# Altium footprint library QFP_Shrink_Sq_40P_Side_L.PcbLib: 26 footprints (part 3 of 3)
Each footprint in its own frame and in the unit in brackets; x right, y up, seen from the top. Pads: shape width x height; smd on the part's side, far side on the other; paste and mask are expansions set on the pad; w line width, h text height; cw(c..) or ccw(c..) is an arc to the next point about the centre after c.
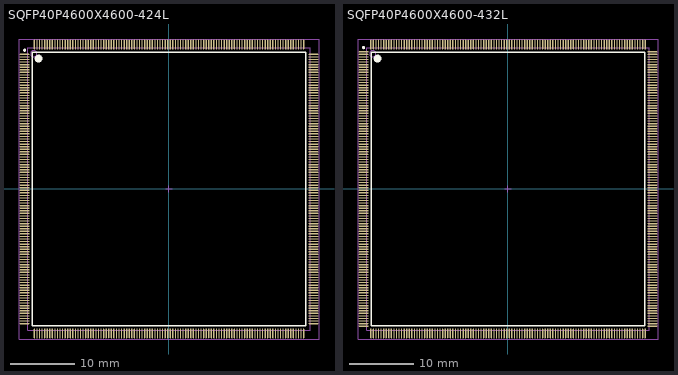
[diagram p2: the footprints below, top view; thin cyan lines are the x and y axes]

## SQFP40P4600X4600-424L [mm] "Shrink QFP, 424-Leads, Body 44x44mm, Pitch 0.4mm, IPC High Density"
height 4.2
pads (424):
  oval 1.55x0.2 smd: 1(-22.525,21) 2(-22.525,20.6) 3(-22.525,20.2) 4(-22.525,19.8) 5(-22.525,19.4) 6(-22.525,19) 7(-22.525,18.6) 8(-22.525,18.2) 9(-22.525,17.8) 10(-22.525,17.4) 11(-22.525,17) 12(-22.525,16.6) 13(-22.525,16.2) 14(-22.525,15.8) 15(-22.525,15.4) 16(-22.525,15) 17(-22.525,14.6) 18(-22.525,14.2) 19(-22.525,13.8) 20(-22.525,13.4) 21(-22.525,13) 22(-22.525,12.6) 23(-22.525,12.2) 24(-22.525,11.8) 25(-22.525,11.4) 26(-22.525,11) 27(-22.525,10.6) 28(-22.525,10.2) 29(-22.525,9.8) 30(-22.525,9.4) 31(-22.525,9) 32(-22.525,8.6) 33(-22.525,8.2) 34(-22.525,7.8) 35(-22.525,7.4) 36(-22.525,7) 37(-22.525,6.6) 38(-22.525,6.2) 39(-22.525,5.8) 40(-22.525,5.4) 41(-22.525,5) 42(-22.525,4.6) 43(-22.525,4.2) 44(-22.525,3.8) 45(-22.525,3.4) 46(-22.525,3) 47(-22.525,2.6) 48(-22.525,2.2) 49(-22.525,1.8) 50(-22.525,1.4) 51(-22.525,1) 52(-22.525,0.6) 53(-22.525,0.2) 54(-22.525,-0.2) 55(-22.525,-0.6) 56(-22.525,-1) 57(-22.525,-1.4) 58(-22.525,-1.8) 59(-22.525,-2.2) 60(-22.525,-2.6) 61(-22.525,-3) 62(-22.525,-3.4) 63(-22.525,-3.8) 64(-22.525,-4.2) 65(-22.525,-4.6) 66(-22.525,-5) 67(-22.525,-5.4) 68(-22.525,-5.8) 69(-22.525,-6.2) 70(-22.525,-6.6) 71(-22.525,-7) 72(-22.525,-7.4) 73(-22.525,-7.8) 74(-22.525,-8.2) 75(-22.525,-8.6) 76(-22.525,-9) 77(-22.525,-9.4) 78(-22.525,-9.8) 79(-22.525,-10.2) 80(-22.525,-10.6) 81(-22.525,-11) 82(-22.525,-11.4) 83(-22.525,-11.8) 84(-22.525,-12.2) 85(-22.525,-12.6) 86(-22.525,-13) 87(-22.525,-13.4) 88(-22.525,-13.8) 89(-22.525,-14.2) 90(-22.525,-14.6) 91(-22.525,-15) 92(-22.525,-15.4) 93(-22.525,-15.8) 94(-22.525,-16.2) 95(-22.525,-16.6) 96(-22.525,-17) 97(-22.525,-17.4) 98(-22.525,-17.8) 99(-22.525,-18.2) 100(-22.525,-18.6) 101(-22.525,-19) 102(-22.525,-19.4) 103(-22.525,-19.8) 104(-22.525,-20.2) 105(-22.525,-20.6) 106(-22.525,-21) 213(22.525,-21) 214(22.525,-20.6) 215(22.525,-20.2) 216(22.525,-19.8) 217(22.525,-19.4) 218(22.525,-19) 219(22.525,-18.6) 220(22.525,-18.2) 221(22.525,-17.8) 222(22.525,-17.4) 223(22.525,-17) 224(22.525,-16.6) 225(22.525,-16.2) 226(22.525,-15.8) 227(22.525,-15.4) 228(22.525,-15) 229(22.525,-14.6) 230(22.525,-14.2) 231(22.525,-13.8) 232(22.525,-13.4) 233(22.525,-13) 234(22.525,-12.6) 235(22.525,-12.2) 236(22.525,-11.8) 237(22.525,-11.4) 238(22.525,-11) 239(22.525,-10.6) 240(22.525,-10.2) 241(22.525,-9.8) 242(22.525,-9.4) 243(22.525,-9) 244(22.525,-8.6) 245(22.525,-8.2) 246(22.525,-7.8) 247(22.525,-7.4) 248(22.525,-7) 249(22.525,-6.6) 250(22.525,-6.2) 251(22.525,-5.8) 252(22.525,-5.4) 253(22.525,-5) 254(22.525,-4.6) 255(22.525,-4.2) 256(22.525,-3.8) 257(22.525,-3.4) 258(22.525,-3) 259(22.525,-2.6) 260(22.525,-2.2) 261(22.525,-1.8) 262(22.525,-1.4) 263(22.525,-1) 264(22.525,-0.6) 265(22.525,-0.2) 266(22.525,0.2) 267(22.525,0.6) 268(22.525,1) 269(22.525,1.4) 270(22.525,1.8) 271(22.525,2.2) 272(22.525,2.6) 273(22.525,3) 274(22.525,3.4) 275(22.525,3.8) 276(22.525,4.2) 277(22.525,4.6) 278(22.525,5) 279(22.525,5.4) 280(22.525,5.8) 281(22.525,6.2) 282(22.525,6.6) 283(22.525,7) 284(22.525,7.4) 285(22.525,7.8) 286(22.525,8.2) 287(22.525,8.6) 288(22.525,9) 289(22.525,9.4) 290(22.525,9.8) 291(22.525,10.2) 292(22.525,10.6) 293(22.525,11) 294(22.525,11.4) 295(22.525,11.8) 296(22.525,12.2) 297(22.525,12.6) 298(22.525,13) 299(22.525,13.4) 300(22.525,13.8) 301(22.525,14.2) 302(22.525,14.6) 303(22.525,15) 304(22.525,15.4) 305(22.525,15.8) 306(22.525,16.2) 307(22.525,16.6) 308(22.525,17) 309(22.525,17.4) 310(22.525,17.8) 311(22.525,18.2) 312(22.525,18.6) 313(22.525,19) 314(22.525,19.4) 315(22.525,19.8) 316(22.525,20.2) 317(22.525,20.6) 318(22.525,21)
  oval 0.2x1.55 smd: 107(-21,-22.525) 108(-20.6,-22.525) 109(-20.2,-22.525) 110(-19.8,-22.525) 111(-19.4,-22.525) 112(-19,-22.525) 113(-18.6,-22.525) 114(-18.2,-22.525) 115(-17.8,-22.525) 116(-17.4,-22.525) 117(-17,-22.525) 118(-16.6,-22.525) 119(-16.2,-22.525) 120(-15.8,-22.525) 121(-15.4,-22.525) 122(-15,-22.525) 123(-14.6,-22.525) 124(-14.2,-22.525) 125(-13.8,-22.525) 126(-13.4,-22.525) 127(-13,-22.525) 128(-12.6,-22.525) 129(-12.2,-22.525) 130(-11.8,-22.525) 131(-11.4,-22.525) 132(-11,-22.525) 133(-10.6,-22.525) 134(-10.2,-22.525) 135(-9.8,-22.525) 136(-9.4,-22.525) 137(-9,-22.525) 138(-8.6,-22.525) 139(-8.2,-22.525) 140(-7.8,-22.525) 141(-7.4,-22.525) 142(-7,-22.525) 143(-6.6,-22.525) 144(-6.2,-22.525) 145(-5.8,-22.525) 146(-5.4,-22.525) 147(-5,-22.525) 148(-4.6,-22.525) 149(-4.2,-22.525) 150(-3.8,-22.525) 151(-3.4,-22.525) 152(-3,-22.525) 153(-2.6,-22.525) 154(-2.2,-22.525) 155(-1.8,-22.525) 156(-1.4,-22.525) 157(-1,-22.525) 158(-0.6,-22.525) 159(-0.2,-22.525) 160(0.2,-22.525) 161(0.6,-22.525) 162(1,-22.525) 163(1.4,-22.525) 164(1.8,-22.525) 165(2.2,-22.525) 166(2.6,-22.525) 167(3,-22.525) 168(3.4,-22.525) 169(3.8,-22.525) 170(4.2,-22.525) 171(4.6,-22.525) 172(5,-22.525) 173(5.4,-22.525) 174(5.8,-22.525) 175(6.2,-22.525) 176(6.6,-22.525) 177(7,-22.525) 178(7.4,-22.525) 179(7.8,-22.525) 180(8.2,-22.525) 181(8.6,-22.525) 182(9,-22.525) 183(9.4,-22.525) 184(9.8,-22.525) 185(10.2,-22.525) 186(10.6,-22.525) 187(11,-22.525) 188(11.4,-22.525) 189(11.8,-22.525) 190(12.2,-22.525) 191(12.6,-22.525) 192(13,-22.525) 193(13.4,-22.525) 194(13.8,-22.525) 195(14.2,-22.525) 196(14.6,-22.525) 197(15,-22.525) 198(15.4,-22.525) 199(15.8,-22.525) 200(16.2,-22.525) 201(16.6,-22.525) 202(17,-22.525) 203(17.4,-22.525) 204(17.8,-22.525) 205(18.2,-22.525) 206(18.6,-22.525) 207(19,-22.525) 208(19.4,-22.525) 209(19.8,-22.525) 210(20.2,-22.525) 211(20.6,-22.525) 212(21,-22.525) 319(21,22.525) 320(20.6,22.525) 321(20.2,22.525) 322(19.8,22.525) 323(19.4,22.525) 324(19,22.525) 325(18.6,22.525) 326(18.2,22.525) 327(17.8,22.525) 328(17.4,22.525) 329(17,22.525) 330(16.6,22.525) 331(16.2,22.525) 332(15.8,22.525) 333(15.4,22.525) 334(15,22.525) 335(14.6,22.525) 336(14.2,22.525) 337(13.8,22.525) 338(13.4,22.525) 339(13,22.525) 340(12.6,22.525) 341(12.2,22.525) 342(11.8,22.525) 343(11.4,22.525) 344(11,22.525) 345(10.6,22.525) 346(10.2,22.525) 347(9.8,22.525) 348(9.4,22.525) 349(9,22.525) 350(8.6,22.525) 351(8.2,22.525) 352(7.8,22.525) 353(7.4,22.525) 354(7,22.525) 355(6.6,22.525) 356(6.2,22.525) 357(5.8,22.525) 358(5.4,22.525) 359(5,22.525) 360(4.6,22.525) 361(4.2,22.525) 362(3.8,22.525) 363(3.4,22.525) 364(3,22.525) 365(2.6,22.525) 366(2.2,22.525) 367(1.8,22.525) 368(1.4,22.525) 369(1,22.525) 370(0.6,22.525) 371(0.2,22.525) 372(-0.2,22.525) 373(-0.6,22.525) 374(-1,22.525) 375(-1.4,22.525) 376(-1.8,22.525) 377(-2.2,22.525) 378(-2.6,22.525) 379(-3,22.525) 380(-3.4,22.525) 381(-3.8,22.525) 382(-4.2,22.525) 383(-4.6,22.525) 384(-5,22.525) 385(-5.4,22.525) 386(-5.8,22.525) 387(-6.2,22.525) 388(-6.6,22.525) 389(-7,22.525) 390(-7.4,22.525) 391(-7.8,22.525) 392(-8.2,22.525) 393(-8.6,22.525) 394(-9,22.525) 395(-9.4,22.525) 396(-9.8,22.525) 397(-10.2,22.525) 398(-10.6,22.525) 399(-11,22.525) 400(-11.4,22.525) 401(-11.8,22.525) 402(-12.2,22.525) 403(-12.6,22.525) 404(-13,22.525) 405(-13.4,22.525) 406(-13.8,22.525) 407(-14.2,22.525) 408(-14.6,22.525) 409(-15,22.525) 410(-15.4,22.525) 411(-15.8,22.525) 412(-16.2,22.525) 413(-16.6,22.525) 414(-17,22.525) 415(-17.4,22.525) 416(-17.8,22.525) 417(-18.2,22.525) 418(-18.6,22.525) 419(-19,22.525) 420(-19.4,22.525) 421(-19.8,22.525) 422(-20.2,22.525) 423(-20.6,22.525) 424(-21,22.525)
Top Overlay:
  circle w0.6: c-20.35,20.35 r0.3
  circle w0.25: c-22.525,21.65 r0.125
  lines w0.2: -21.35,-21.35 21.35,-21.35 21.35,21.35 -21.35,21.35 -21.35,-21.35
Mechanical 13:
  circle w0.1: c-21.1,21.1 r0.5
  lines w0.1: -22,-22 22,-22 22,22 -22,22 -22,-22
Mechanical 15:
  lines w0.1: -0.5,0 0.5,0 ; 0,-0.5 0,0.5 ; -23.4,-23.4 23.4,-23.4 23.4,23.4 -23.4,23.4 -23.4,-23.4
3D body: height 4.2, standoff 0, extent -22,-22 22,22

## SQFP40P4600X4600-432L [mm] "Shrink QFP, 432-Leads, Body 44x44mm, Pitch 0.4mm, IPC High Density"
height 4.2
pads (432):
  oval 1.55x0.2 smd: 1(-22.525,21.4) 2(-22.525,21) 3(-22.525,20.6) 4(-22.525,20.2) 5(-22.525,19.8) 6(-22.525,19.4) 7(-22.525,19) 8(-22.525,18.6) 9(-22.525,18.2) 10(-22.525,17.8) 11(-22.525,17.4) 12(-22.525,17) 13(-22.525,16.6) 14(-22.525,16.2) 15(-22.525,15.8) 16(-22.525,15.4) 17(-22.525,15) 18(-22.525,14.6) 19(-22.525,14.2) 20(-22.525,13.8) 21(-22.525,13.4) 22(-22.525,13) 23(-22.525,12.6) 24(-22.525,12.2) 25(-22.525,11.8) 26(-22.525,11.4) 27(-22.525,11) 28(-22.525,10.6) 29(-22.525,10.2) 30(-22.525,9.8) 31(-22.525,9.4) 32(-22.525,9) 33(-22.525,8.6) 34(-22.525,8.2) 35(-22.525,7.8) 36(-22.525,7.4) 37(-22.525,7) 38(-22.525,6.6) 39(-22.525,6.2) 40(-22.525,5.8) 41(-22.525,5.4) 42(-22.525,5) 43(-22.525,4.6) 44(-22.525,4.2) 45(-22.525,3.8) 46(-22.525,3.4) 47(-22.525,3) 48(-22.525,2.6) 49(-22.525,2.2) 50(-22.525,1.8) 51(-22.525,1.4) 52(-22.525,1) 53(-22.525,0.6) 54(-22.525,0.2) 55(-22.525,-0.2) 56(-22.525,-0.6) 57(-22.525,-1) 58(-22.525,-1.4) 59(-22.525,-1.8) 60(-22.525,-2.2) 61(-22.525,-2.6) 62(-22.525,-3) 63(-22.525,-3.4) 64(-22.525,-3.8) 65(-22.525,-4.2) 66(-22.525,-4.6) 67(-22.525,-5) 68(-22.525,-5.4) 69(-22.525,-5.8) 70(-22.525,-6.2) 71(-22.525,-6.6) 72(-22.525,-7) 73(-22.525,-7.4) 74(-22.525,-7.8) 75(-22.525,-8.2) 76(-22.525,-8.6) 77(-22.525,-9) 78(-22.525,-9.4) 79(-22.525,-9.8) 80(-22.525,-10.2) 81(-22.525,-10.6) 82(-22.525,-11) 83(-22.525,-11.4) 84(-22.525,-11.8) 85(-22.525,-12.2) 86(-22.525,-12.6) 87(-22.525,-13) 88(-22.525,-13.4) 89(-22.525,-13.8) 90(-22.525,-14.2) 91(-22.525,-14.6) 92(-22.525,-15) 93(-22.525,-15.4) 94(-22.525,-15.8) 95(-22.525,-16.2) 96(-22.525,-16.6) 97(-22.525,-17) 98(-22.525,-17.4) 99(-22.525,-17.8) 100(-22.525,-18.2) 101(-22.525,-18.6) 102(-22.525,-19) 103(-22.525,-19.4) 104(-22.525,-19.8) 105(-22.525,-20.2) 106(-22.525,-20.6) 107(-22.525,-21) 108(-22.525,-21.4) 217(22.525,-21.4) 218(22.525,-21) 219(22.525,-20.6) 220(22.525,-20.2) 221(22.525,-19.8) 222(22.525,-19.4) 223(22.525,-19) 224(22.525,-18.6) 225(22.525,-18.2) 226(22.525,-17.8) 227(22.525,-17.4) 228(22.525,-17) 229(22.525,-16.6) 230(22.525,-16.2) 231(22.525,-15.8) 232(22.525,-15.4) 233(22.525,-15) 234(22.525,-14.6) 235(22.525,-14.2) 236(22.525,-13.8) 237(22.525,-13.4) 238(22.525,-13) 239(22.525,-12.6) 240(22.525,-12.2) 241(22.525,-11.8) 242(22.525,-11.4) 243(22.525,-11) 244(22.525,-10.6) 245(22.525,-10.2) 246(22.525,-9.8) 247(22.525,-9.4) 248(22.525,-9) 249(22.525,-8.6) 250(22.525,-8.2) 251(22.525,-7.8) 252(22.525,-7.4) 253(22.525,-7) 254(22.525,-6.6) 255(22.525,-6.2) 256(22.525,-5.8) 257(22.525,-5.4) 258(22.525,-5) 259(22.525,-4.6) 260(22.525,-4.2) 261(22.525,-3.8) 262(22.525,-3.4) 263(22.525,-3) 264(22.525,-2.6) 265(22.525,-2.2) 266(22.525,-1.8) 267(22.525,-1.4) 268(22.525,-1) 269(22.525,-0.6) 270(22.525,-0.2) 271(22.525,0.2) 272(22.525,0.6) 273(22.525,1) 274(22.525,1.4) 275(22.525,1.8) 276(22.525,2.2) 277(22.525,2.6) 278(22.525,3) 279(22.525,3.4) 280(22.525,3.8) 281(22.525,4.2) 282(22.525,4.6) 283(22.525,5) 284(22.525,5.4) 285(22.525,5.8) 286(22.525,6.2) 287(22.525,6.6) 288(22.525,7) 289(22.525,7.4) 290(22.525,7.8) 291(22.525,8.2) 292(22.525,8.6) 293(22.525,9) 294(22.525,9.4) 295(22.525,9.8) 296(22.525,10.2) 297(22.525,10.6) 298(22.525,11) 299(22.525,11.4) 300(22.525,11.8) 301(22.525,12.2) 302(22.525,12.6) 303(22.525,13) 304(22.525,13.4) 305(22.525,13.8) 306(22.525,14.2) 307(22.525,14.6) 308(22.525,15) 309(22.525,15.4) 310(22.525,15.8) 311(22.525,16.2) 312(22.525,16.6) 313(22.525,17) 314(22.525,17.4) 315(22.525,17.8) 316(22.525,18.2) 317(22.525,18.6) 318(22.525,19) 319(22.525,19.4) 320(22.525,19.8) 321(22.525,20.2) 322(22.525,20.6) 323(22.525,21) 324(22.525,21.4)
  oval 0.2x1.55 smd: 109(-21.4,-22.525) 110(-21,-22.525) 111(-20.6,-22.525) 112(-20.2,-22.525) 113(-19.8,-22.525) 114(-19.4,-22.525) 115(-19,-22.525) 116(-18.6,-22.525) 117(-18.2,-22.525) 118(-17.8,-22.525) 119(-17.4,-22.525) 120(-17,-22.525) 121(-16.6,-22.525) 122(-16.2,-22.525) 123(-15.8,-22.525) 124(-15.4,-22.525) 125(-15,-22.525) 126(-14.6,-22.525) 127(-14.2,-22.525) 128(-13.8,-22.525) 129(-13.4,-22.525) 130(-13,-22.525) 131(-12.6,-22.525) 132(-12.2,-22.525) 133(-11.8,-22.525) 134(-11.4,-22.525) 135(-11,-22.525) 136(-10.6,-22.525) 137(-10.2,-22.525) 138(-9.8,-22.525) 139(-9.4,-22.525) 140(-9,-22.525) 141(-8.6,-22.525) 142(-8.2,-22.525) 143(-7.8,-22.525) 144(-7.4,-22.525) 145(-7,-22.525) 146(-6.6,-22.525) 147(-6.2,-22.525) 148(-5.8,-22.525) 149(-5.4,-22.525) 150(-5,-22.525) 151(-4.6,-22.525) 152(-4.2,-22.525) 153(-3.8,-22.525) 154(-3.4,-22.525) 155(-3,-22.525) 156(-2.6,-22.525) 157(-2.2,-22.525) 158(-1.8,-22.525) 159(-1.4,-22.525) 160(-1,-22.525) 161(-0.6,-22.525) 162(-0.2,-22.525) 163(0.2,-22.525) 164(0.6,-22.525) 165(1,-22.525) 166(1.4,-22.525) 167(1.8,-22.525) 168(2.2,-22.525) 169(2.6,-22.525) 170(3,-22.525) 171(3.4,-22.525) 172(3.8,-22.525) 173(4.2,-22.525) 174(4.6,-22.525) 175(5,-22.525) 176(5.4,-22.525) 177(5.8,-22.525) 178(6.2,-22.525) 179(6.6,-22.525) 180(7,-22.525) 181(7.4,-22.525) 182(7.8,-22.525) 183(8.2,-22.525) 184(8.6,-22.525) 185(9,-22.525) 186(9.4,-22.525) 187(9.8,-22.525) 188(10.2,-22.525) 189(10.6,-22.525) 190(11,-22.525) 191(11.4,-22.525) 192(11.8,-22.525) 193(12.2,-22.525) 194(12.6,-22.525) 195(13,-22.525) 196(13.4,-22.525) 197(13.8,-22.525) 198(14.2,-22.525) 199(14.6,-22.525) 200(15,-22.525) 201(15.4,-22.525) 202(15.8,-22.525) 203(16.2,-22.525) 204(16.6,-22.525) 205(17,-22.525) 206(17.4,-22.525) 207(17.8,-22.525) 208(18.2,-22.525) 209(18.6,-22.525) 210(19,-22.525) 211(19.4,-22.525) 212(19.8,-22.525) 213(20.2,-22.525) 214(20.6,-22.525) 215(21,-22.525) 216(21.4,-22.525) 325(21.4,22.525) 326(21,22.525) 327(20.6,22.525) 328(20.2,22.525) 329(19.8,22.525) 330(19.4,22.525) 331(19,22.525) 332(18.6,22.525) 333(18.2,22.525) 334(17.8,22.525) 335(17.4,22.525) 336(17,22.525) 337(16.6,22.525) 338(16.2,22.525) 339(15.8,22.525) 340(15.4,22.525) 341(15,22.525) 342(14.6,22.525) 343(14.2,22.525) 344(13.8,22.525) 345(13.4,22.525) 346(13,22.525) 347(12.6,22.525) 348(12.2,22.525) 349(11.8,22.525) 350(11.4,22.525) 351(11,22.525) 352(10.6,22.525) 353(10.2,22.525) 354(9.8,22.525) 355(9.4,22.525) 356(9,22.525) 357(8.6,22.525) 358(8.2,22.525) 359(7.8,22.525) 360(7.4,22.525) 361(7,22.525) 362(6.6,22.525) 363(6.2,22.525) 364(5.8,22.525) 365(5.4,22.525) 366(5,22.525) 367(4.6,22.525) 368(4.2,22.525) 369(3.8,22.525) 370(3.4,22.525) 371(3,22.525) 372(2.6,22.525) 373(2.2,22.525) 374(1.8,22.525) 375(1.4,22.525) 376(1,22.525) 377(0.6,22.525) 378(0.2,22.525) 379(-0.2,22.525) 380(-0.6,22.525) 381(-1,22.525) 382(-1.4,22.525) 383(-1.8,22.525) 384(-2.2,22.525) 385(-2.6,22.525) 386(-3,22.525) 387(-3.4,22.525) 388(-3.8,22.525) 389(-4.2,22.525) 390(-4.6,22.525) 391(-5,22.525) 392(-5.4,22.525) 393(-5.8,22.525) 394(-6.2,22.525) 395(-6.6,22.525) 396(-7,22.525) 397(-7.4,22.525) 398(-7.8,22.525) 399(-8.2,22.525) 400(-8.6,22.525) 401(-9,22.525) 402(-9.4,22.525) 403(-9.8,22.525) 404(-10.2,22.525) 405(-10.6,22.525) 406(-11,22.525) 407(-11.4,22.525) 408(-11.8,22.525) 409(-12.2,22.525) 410(-12.6,22.525) 411(-13,22.525) 412(-13.4,22.525) 413(-13.8,22.525) 414(-14.2,22.525) 415(-14.6,22.525) 416(-15,22.525) 417(-15.4,22.525) 418(-15.8,22.525) 419(-16.2,22.525) 420(-16.6,22.525) 421(-17,22.525) 422(-17.4,22.525) 423(-17.8,22.525) 424(-18.2,22.525) 425(-18.6,22.525) 426(-19,22.525) 427(-19.4,22.525) 428(-19.8,22.525) 429(-20.2,22.525) 430(-20.6,22.525) 431(-21,22.525) 432(-21.4,22.525)
Top Overlay:
  circle w0.6: c-20.35,20.35 r0.3
  circle w0.25: c-22.525,22.05 r0.125
  lines w0.2: -21.35,-21.35 21.35,-21.35 21.35,21.35 -21.35,21.35 -21.35,-21.35
Mechanical 13:
  circle w0.1: c-21.1,21.1 r0.5
  lines w0.1: -22,-22 22,-22 22,22 -22,22 -22,-22
Mechanical 15:
  lines w0.1: -0.5,0 0.5,0 ; 0,-0.5 0,0.5 ; -23.4,-23.4 23.4,-23.4 23.4,23.4 -23.4,23.4 -23.4,-23.4
3D body: height 4.2, standoff 0, extent -22,-22 22,22